# Altium footprint library WM7622CT-ND.PcbLib: 2 footprints
Each footprint in its own frame and in the unit in brackets; x right, y up, seen from the top. Pads: shape width x height; smd on the part's side, far side on the other; paste and mask are expansions set on the pad; w line width, h text height; cw(c..) or ccw(c..) is an arc to the next point about the centre after c.
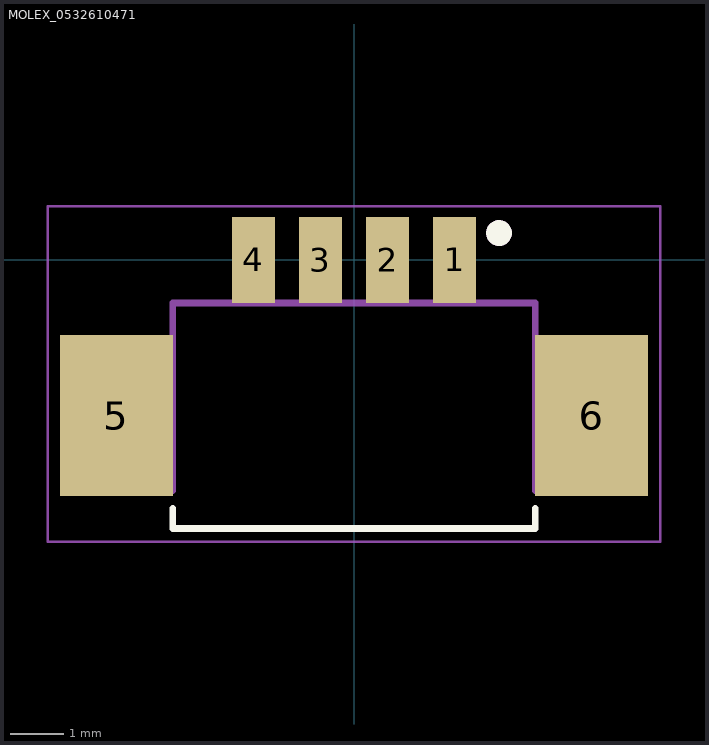
[diagram p0: the footprints below, top view; thin cyan lines are the x and y axes]

## MOLEX_0532610471 [mm]
pads (6):
  rect 0.8x1.6 smd: 1(1.875,0) 2(0.625,0) 3(-0.625,0) 4(-1.875,0)
  rect 2.1x3 smd: 5(-4.425,-2.9) 6(4.425,-2.9)
Top Overlay:
  circle w0.24: c2.7,0.5 r0.12
  lines w0.127: -3.375,-4.625 -3.375,-5 3.375,-5 3.375,-4.625
Mechanical 4:
  circle w0.24: c2.7,0.5 r0.12
  circle w0.24: c2.7,0.5 r0.12
  lines w0.127: -3.375,-0.8 -3.375,-4.3 -3.375,-0.8 ; -3.375,-0.8 3.375,-0.8 ; -3.375,-0.8 3.375,-0.8 ; 3.375,-0.8 3.375,-4.3 3.375,-0.8
Mechanical 16:
  lines w0.05: -5.7,-5.25 -5.7,1 5.7,1 5.7,-5.25 -5.7,-5.25

## PCBComponent_1 [mm]